# Altium schematic symbol library BC846A-BC849C.SchLib: 1 symbol
Pins are listed as number, name and electrical type; pins without a type are passive.

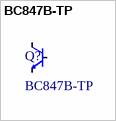
[diagram p0: symbol BC847B-TP]

## BC847B-TP
designator Q?
Bipolar (BJT) Transistor NPN 45 V 100 mA 100MHz 225 mW Surface Mount SOT-23; Type: BC847B-TP
footprint BC8xx_SOT23-3_C (SOT23, 3-Leads, Body 2.92x2.37mm, Pitch 0.95mm, IPC High Density)
pins: B, C, E